# Altium footprint library CD74HCT4067M.PcbLib: 1 footprints
Each footprint in its own frame and in the unit in brackets; x right, y up, seen from the top. Pads: shape width x height; smd on the part's side, far side on the other; paste and mask are expansions set on the pad; w line width, h text height; cw(c..) or ccw(c..) is an arc to the next point about the centre after c.
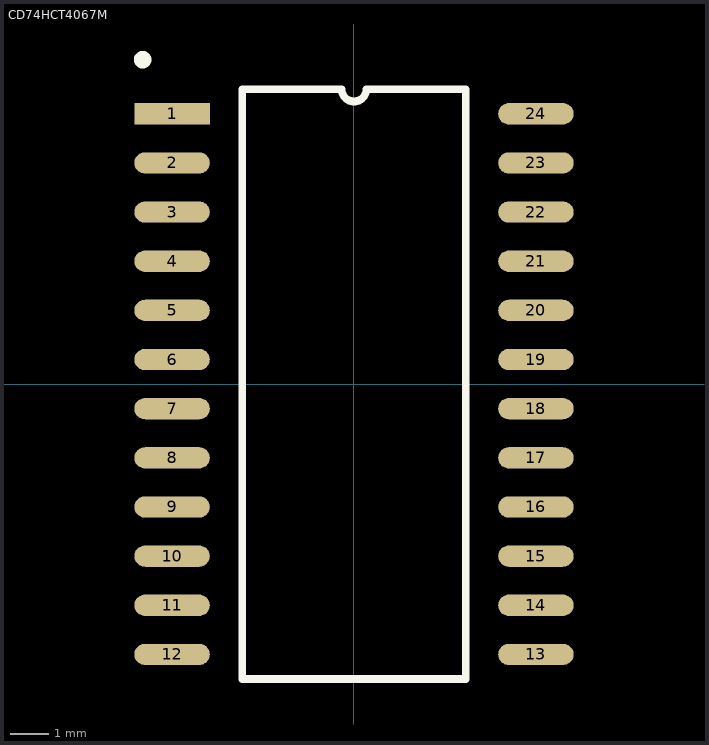
[diagram p0: the footprint, top view; thin cyan lines are the x and y axes]

## CD74HCT4067M [mm] "IC MUX/DEMUX 1X16 24SOIC"
height 2.65
pads (24):
  rect 1.95x0.55 smd: 1(-4.7,6.985)
  oval 1.95x0.55 smd: 2(-4.7,5.715) 3(-4.7,4.445) 4(-4.7,3.175) 5(-4.7,1.905) 6(-4.7,0.635) 7(-4.7,-0.635) 8(-4.7,-1.905) 9(-4.7,-3.175) 10(-4.7,-4.445) 11(-4.7,-5.715) 12(-4.7,-6.985) 13(4.7,-6.985) 14(4.7,-5.715) 15(4.7,-4.445) 16(4.7,-3.175) 17(4.7,-1.905) 18(4.7,-0.635) 19(4.7,0.635) 20(4.7,1.905) 21(4.7,3.175) 22(4.7,4.445) 23(4.7,5.715) 24(4.7,6.985)
Top Overlay:
  circle w0.254: c-5.461,8.382 r0.1
  lines w0.2: -2.89,-7.62 -2.89,7.62 -0.318,7.62 ccw(c0,7.62) 0.318,7.62 2.89,7.62 2.89,-7.62 -2.89,-7.62
3D body "CD74HCT4067M.STEP": height 2.65, standoff 0, extent -5.15,-7.7 5.15,7.7